# EAGLE library part 620306124022 (library WR-WTB)
WR-WTB 2.00 mm SMT Male Vertical Shrouded Header Material Properties Insulator Material PA9T Insulator Flammability Rating UL94 V-0 Color Beige Contact Material Copper Alloy Contact Plating Tin Contact Type Stamped Certification UL Approval E323964 General Information Operating Temperature -40 °C up to +85 °C Compliance RoHS IR 2 A Working Voltage 100 V (AC) Withstanding Voltage 800 V (AC) Contact Resistance 20 mΩ RISO 1000 MΩ Pitch 2 mm Gender Male Type Vertical Packaging Properties Packaging Tape and Reel with Cap Details see: www.we-online.com/en/components/products/WTB_2_00_SMT_MALE_VERTICAL_SHROUDED_HEADER_6203XX124022 Updated by Ella 2025-03-06 2025 (C) Würth Elektronik
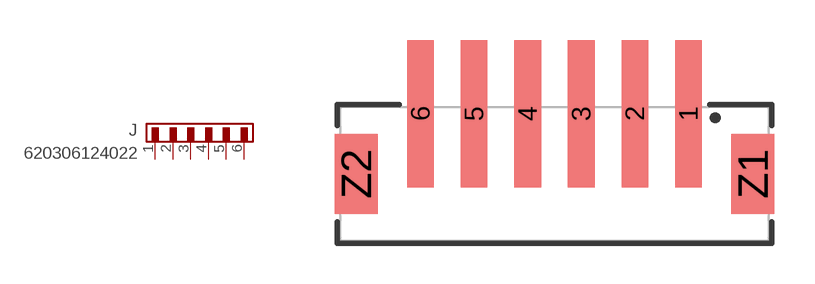
[diagram p30: symbol with the pads of 620306124022; footprint 620306124022]

Designator prefix J

## 620306124022 (CONTACT-RESISTANCE: 20mOhm; DATASHEET: https://www.we-online.com/redexpert/spec/620306124022?ae; GENDER: Male; IR: 2A; L: 16mm; MOUNT: SMT; PACKAGING: Tape and Reel with Cap; PART-NUMBER: 620306124022; PCB-CABLE-PANEL: PCB; PINS: 6; PITCH: 2mm; TYPE: Vertical; VALUE: 620306124022; WORKING-VOLTAGE: 100V(AC))  [620306124022]
1  1  pas
2  2  pas
3  3  pas
4  4  pas
5  5  pas
6  6  pas

## Footprint 620306124022 (pad centres in mm)
WR-WTB 2.00 mm SMT Male Vertical Shrouded Header,6 Pins
smd 1 x 5.5: 1 5,2.25; 2 3,2.25; 3 1,2.25; 4 -1,2.25; 5 -3,2.25; 6 -5,2.25
smd 1.6 x 3: Z1 7.4,0; Z2 -7.4,0